# Altium footprint library S2KDFQ-13.PcbLib: 1 footprints
Each footprint in its own frame and in the unit in brackets; x right, y up, seen from the top. Pads: shape width x height; smd on the part's side, far side on the other; paste and mask are expansions set on the pad; w line width, h text height; cw(c..) or ccw(c..) is an arc to the next point about the centre after c.
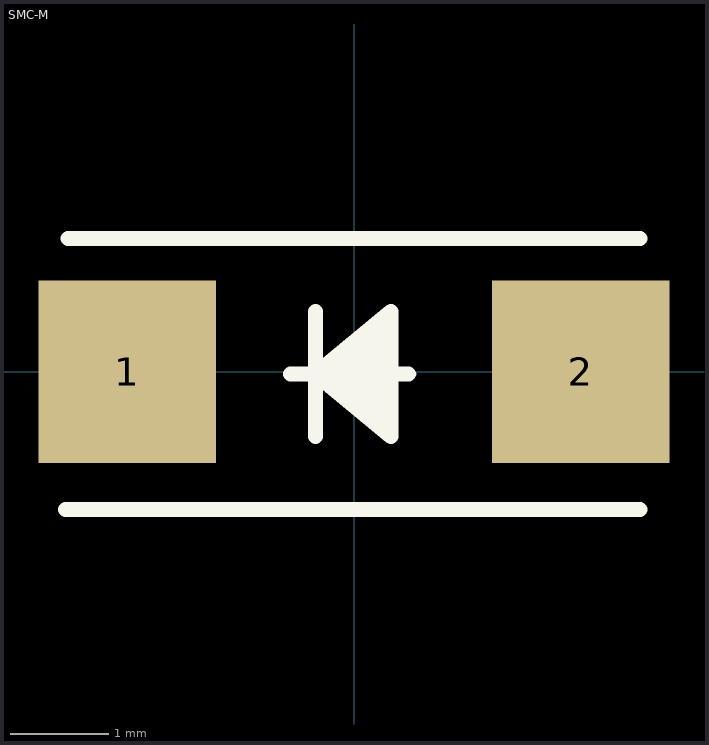
[diagram p0: the footprint, top view; thin cyan lines are the x and y axes]

## SMC-M [mm]
pads (2):
  rect 1.8x1.85 smd paste+0 mask+0: 1(-2.3,0) 2(2.3,0)
Top Overlay:
  lines w0.152: -2.925,-1.4 2.9,-1.4 ; -2.9,1.35 2.9,1.35 ; -0.643,-0.025 0.552,-0.025 ; -0.389,-0.66 -0.389,0.61 ; 0.373,-0.533 -0.389,-0.025 ; 0.373,-0.406 -0.389,-0.025 ; 0.373,-0.279 -0.389,-0.025 ; 0.373,-0.152 -0.389,-0.025 ; 0.373,0.102 -0.389,-0.025 ; 0.373,0.229 -0.389,-0.025 ; 0.373,0.356 -0.389,-0.025 ; 0.373,0.483 -0.389,-0.025 ; -0.389,-0.025 0.373,-0.66 0.373,0.61 -0.389,-0.025
Mechanical 13:
  lines w0.025: -0.643,-0.025 0.627,-0.025 ; -0.389,-0.66 -0.389,0.61 ; 0.373,-0.533 -0.389,-0.025 ; 0.373,-0.406 -0.389,-0.025 ; 0.373,-0.279 -0.389,-0.025 ; 0.373,-0.152 -0.389,-0.025 ; 0.373,0.102 -0.389,-0.025 ; 0.373,0.229 -0.389,-0.025 ; 0.373,0.356 -0.389,-0.025 ; 0.373,0.483 -0.389,-0.025 ; -0.389,-0.025 0.373,-0.66 0.373,0.61 -0.389,-0.025
3D body "SMC-M.STEP": height 1.1, standoff 0, extent -2,-1.125 2,1.125
3D body: height 0.25, standoff 0, extent 0,0 0.254,0.254